# Altium footprint library ECS_ECX-1247.PcbLib: 1 footprints
Each footprint in its own frame and in the unit in brackets; x right, y up, seen from the top. Pads: shape width x height; smd on the part's side, far side on the other; paste and mask are expansions set on the pad; w line width, h text height; cw(c..) or ccw(c..) is an arc to the next point about the centre after c.
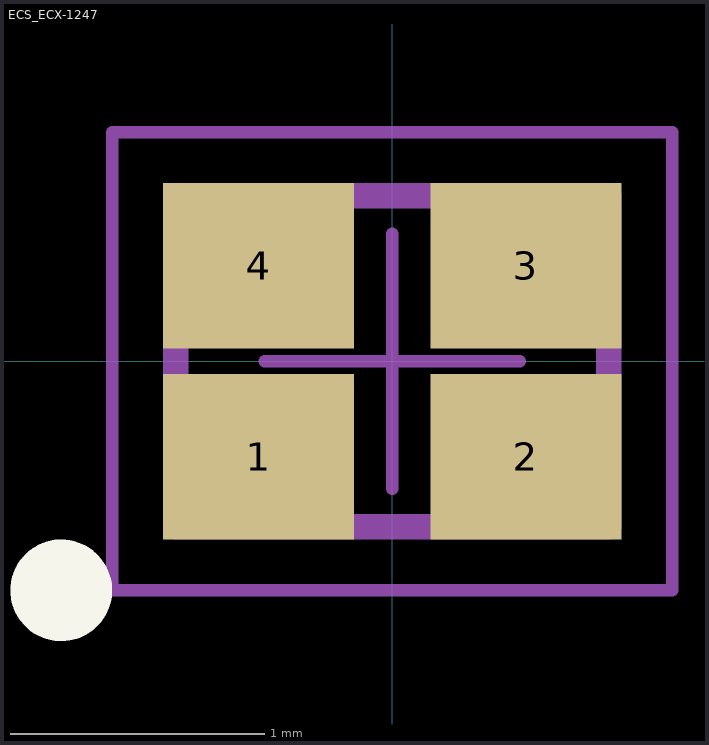
[diagram p0: the footprint, top view; thin cyan lines are the x and y axes]

## ECS_ECX-1247 [mm] "ECS_ECX-1247"
height 0.35
pads (4):
  rect 0.75x0.65 smd mask+0.05: 1(-0.525,-0.375) 2(0.525,-0.375) 3(0.525,0.375) 4(-0.525,0.375)
Top Overlay:
  circle w0.2: c-1.3,-0.9 r0.1
Top Solder:
  rectangle: -0.95,-0.75 -0.1,0.75
  region: 0.95,0.75 0.1,0.75 0.1,-0.75 0.95,-0.75
Top 3D Body:
  lines w0.1: -0.85,-0.65 0.85,-0.65 0.85,0.65 -0.85,0.65 -0.85,-0.65
Top Courtyard (Mech15):
  lines w0.05: -0.5,0 0.5,0 ; 0,-0.5 0,0.5 ; -1.1,-0.9 1.1,-0.9 1.1,0.9 -1.1,0.9 -1.1,-0.9
3D body "ECS-520-8-47-CKM-TR.STEP": height 0.35, standoff 0, extent -0.8,-0.6 0.8,0.6